# EAGLE library part WR-MPC3_16PIN (library bytewerk-con)
WR-MPC3 16 pins Imax=5A
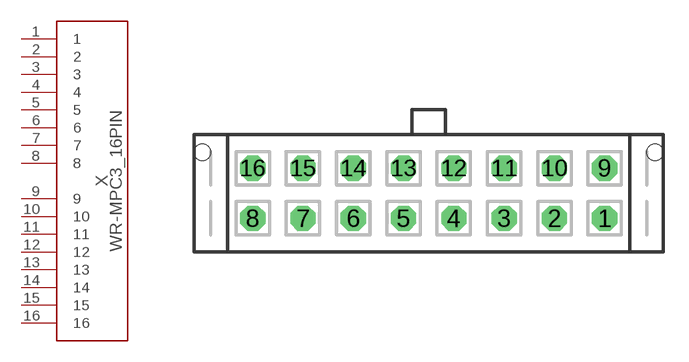
[diagram p5: symbol with the pads of 66201621122; footprint 66201621122]

Designator prefix X

## WR-MPC3_16PIN (MP: Wuerth Electronic; MPN: 66201621122; OC_FARNELL: 2113414)  [66201621122]
1  1  pas
2  2  pas
3  3  pas
4  4  pas
5  5  pas
6  6  pas
7  7  pas
8  8  pas
9  9  pas
10  10  pas
11  11  pas
12  12  pas
13  13  pas
14  14  pas
15  15  pas
16  16  pas

## Footprint 66201621122 (pad centres in mm)
drill 1 octagon: 1 10.5,-1.5; 2 7.5,-1.5; 3 4.5,-1.5; 4 1.5,-1.5; 5 -1.5,-1.5; 6 -4.5,-1.5; 7 -7.5,-1.5; 8 -10.5,-1.5; 9 10.5,1.5; 10 7.5,1.5; 11 4.5,1.5; 12 1.5,1.5; 13 -1.5,1.5; 14 -4.5,1.5; 15 -7.5,1.5; 16 -10.5,1.5
hole 1 at -13.5,2.44
hole 1 at 13.5,2.44